# EAGLE library part 428547320911 (library WS-ROTV)
WS-ROTV THT Rotary Switch with Arrow Type Actuator 7x7 mm Material Properties Cover Material : Stainless Steel Packaging Properties Packaging :Tube Electrical Properties IR 1 :100 mA Properties Actuator Material：LCP Actuator Flammability Rating：UL94 V-0 Actuator Color：Grey; Ivory; Orange; Red Base Material：LCP Base Flammability Rating：UL94 V-0 Terminal Plating：Gold Actuator Type：Arrow Type Washable：Yes Additional VR：42 V (DC) Mechanical Properties Electrical Life：25000 Steps Actuator Type：Arrow Type Code：Complement Code; Real Code General Information Operating Temperature:-60 up to +125 °C Tableadditional Actuator Type：Arrow Type Washable：Yes <https://www.we-online.com/catalog/media/o55750v209%20Family_WS-ROtV_THT_Rotary_Switch_428547320910.jpg> Details see: https://www.we-online.com/catalog/en/ROTV_7X7_WASHABLE_THT_ARROW_TYPE/ Updated by yingchun,Shan;2020-02-24 2020(C) Würth Elektronik
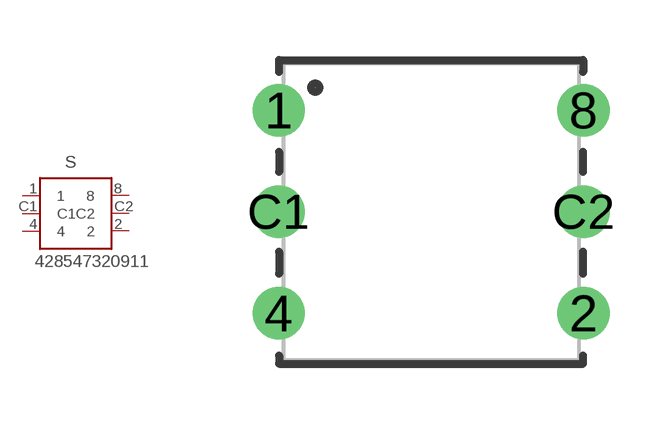
[diagram p4: symbol with the pads of 42854732091X_10POS; footprint 42854732091X_10POS]

Designator prefix S

## 428547320911 (DATASHEET-URL: https://www.we-online.com/redexpert/spec/428547320911?ae; NUMBER-OF-POSITION: 10; PART-NUMBER: 428547320911; QTY: 70)  [42854732091X_10POS]
1  1  pas
2  2  pas
4  4  pas
8  8  pas
C1  C1  pas
C2  C2  pas

## Footprint 42854732091X_10POS (pad centres in mm)
WS-ROTV THT Rotary Switch with Arrow Type Actuator 7x7 mm
drill 0.8: 1 -3.81,2.54; 2 3.81,-2.54; 4 -3.81,-2.54; 8 3.81,2.54; C1 -3.81,0; C2 3.81,0